# Altium schematic symbol library Mercury.SchLib: 1 symbol
Pins are listed as number, name and electrical type; pins without a type are passive.

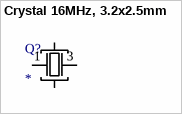
[diagram p0: symbol Crystal 16MHz, 3.2x2.5mm]

## Crystal 16MHz, 3.2x2.5mm
designator Q?
X32
footprint X32 (Crystal Oscillator X32 Package, 3.2x2.5)
pins: 1, 2, 3, 4